# EAGLE library part TESTCHIP2D (library harrison)
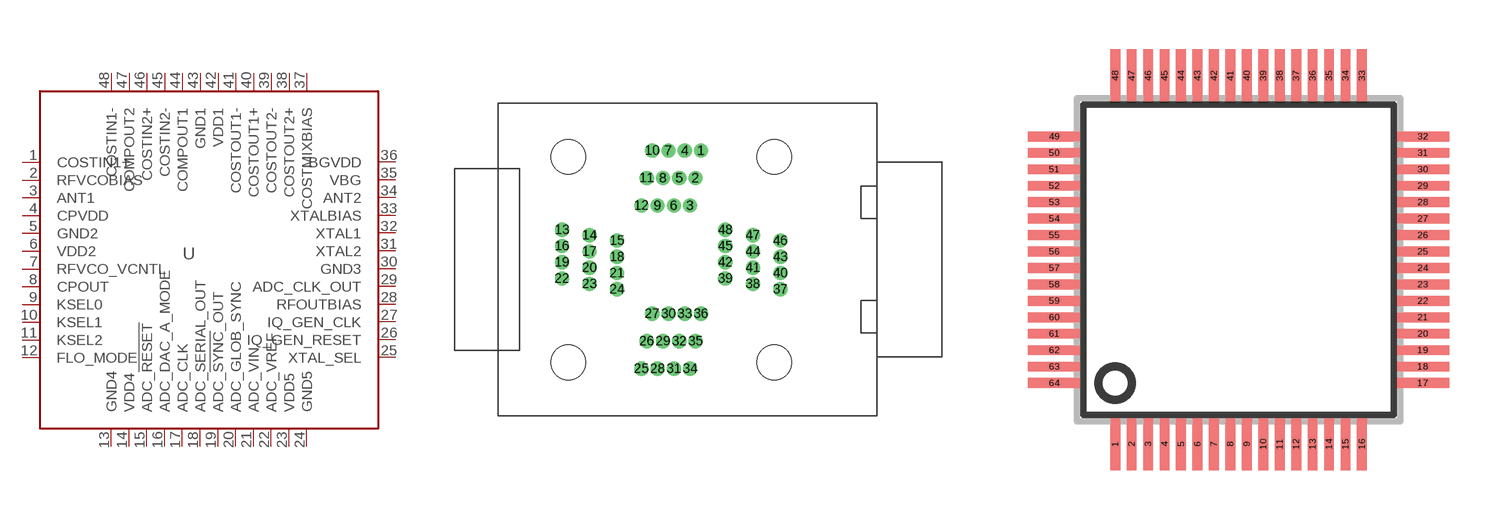
[diagram p38: symbol with the pads of ZIF_QFP48_7_X_7; footprints ZIF_QFP48_7_X_7, LQFP-64]

Designator prefix U

## TESTCHIP2DZIF  [ZIF_QFP48_7_X_7]
1  COSTIN1+
2  RFVCOBIAS
3  ANT1
4  CPVDD
5  GND2
6  VDD2
7  RFVCO_VCNTL
8  CPOUT
9  KSEL0
10  KSEL1
11  KSEL2
12  FLO_MODE
13  GND4
14  VDD4
15  ADC_!RESET!
16  ADC_DAC_A_MODE
17  ADC_CLK
18  ADC_SERIAL_OUT
19  ADC_!SYNC!_OUT
20  ADC_GLOB_SYNC
21  ADC_VIN
22  ADC_VREF
23  VDD5
24  GND5
25  XTAL_SEL
26  IQ_GEN_RESET
27  IQ_GEN_CLK
28  RFOUTBIAS
29  ADC_CLK_OUT
30  GND3
31  XTAL2
32  XTAL1
33  XTALBIAS
34  ANT2
35  VBG
36  BGVDD
37  COSTMIXBIAS
38  COSTOUT2+
39  COSTOUT2-
40  COSTOUT1+
41  COSTOUT1-
42  VDD1
43  GND1
44  COMPOUT1
45  COSTIN2-
46  COSTIN2+
47  COMPOUT2
48  COSTIN1-

## TESTCHIP2DQFP  [LQFP-64]
Pads as for ZIF_QFP48_7_X_7

## Footprint ZIF_QFP48_7_X_7 (pad centres in mm)
drill 0.8 pad 1.27: 1 2.75,10.08; 2 2.25,7.54; 3 1.75,5; 4 1.25,10.08; 5 0.75,7.54; 6 0.25,5; 7 -0.25,10.08; 8 -0.75,7.54; 9 -1.25,5; 10 -1.75,10.08; 11 -2.25,7.54; 12 -2.75,5; 13 -10.08,2.75; 14 -7.54,2.25; 15 -5,1.75; 16 -10.08,1.25; 17 -7.54,0.75; 18 -5,0.25; 19 -10.08,-0.25; 20 -7.54,-0.75; 21 -5,-1.25; 22 -10.08,-1.75; 23 -7.54,-2.25; 24 -5,-2.75; 25 -2.75,-10.08; 26 -2.25,-7.54; 27 -1.75,-5; 28 -1.25,-10.08; 29 -0.75,-7.54; 30 -0.25,-5; 31 0.25,-10.08; 32 0.75,-7.54; 33 1.25,-5; 34 1.75,-10.08; 35 2.25,-7.54; 36 2.75,-5; 37 10.08,-2.75; 38 7.54,-2.25; 39 5,-1.75; 40 10.08,-1.25; 41 7.54,-0.75; 42 5,-0.25; 43 10.08,0.25; 44 7.54,0.75; 45 5,1.25; 46 10.08,1.75; 47 7.54,2.25; 48 5,2.75
hole 3.2 at 9.5,9.5
hole 3.2 at -9.5,9.5
hole 3.2 at -9.5,-9.5
hole 3.2 at 9.5,-9.5

## Footprint LQFP-64 (pad centres in mm)
smd 0.3 x 1.6: 1 -3.75,-5.6; 2 -3.25,-5.6; 3 -2.75,-5.6; 4 -2.25,-5.6; 5 -1.75,-5.6; 6 -1.25,-5.6; 7 -0.75,-5.6; 8 -0.25,-5.6; 9 0.25,-5.6; 10 0.75,-5.6; 11 1.25,-5.6; 12 1.75,-5.6; 13 2.25,-5.6; 14 2.75,-5.6; 15 3.25,-5.6; 16 3.75,-5.6; 33 3.75,5.6; 34 3.25,5.6; 35 2.75,5.6; 36 2.25,5.6; 37 1.75,5.6; 38 1.25,5.6; 39 0.75,5.6; 40 0.25,5.6; 41 -0.25,5.6; 42 -0.75,5.6; 43 -1.25,5.6; 44 -1.75,5.6; 45 -2.25,5.6; 46 -2.75,5.6; 47 -3.25,5.6; 48 -3.75,5.6
smd 1.6 x 0.3: 17 5.6,-3.75; 18 5.6,-3.25; 19 5.6,-2.75; 20 5.6,-2.25; 21 5.6,-1.75; 22 5.6,-1.25; 23 5.6,-0.75; 24 5.6,-0.25; 25 5.6,0.25; 26 5.6,0.75; 27 5.6,1.25; 28 5.6,1.75; 29 5.6,2.25; 30 5.6,2.75; 31 5.6,3.25; 32 5.6,3.75; 49 -5.6,3.75; 50 -5.6,3.25; 51 -5.6,2.75; 52 -5.6,2.25; 53 -5.6,1.75; 54 -5.6,1.25; 55 -5.6,0.75; 56 -5.6,0.25; 57 -5.6,-0.25; 58 -5.6,-0.75; 59 -5.6,-1.25; 60 -5.6,-1.75; 61 -5.6,-2.25; 62 -5.6,-2.75; 63 -5.6,-3.25; 64 -5.6,-3.75